# Altium schematic symbol library RCL.SchLib: 4 symbols
Pins are listed as number, name and electrical type; pins without a type are passive.

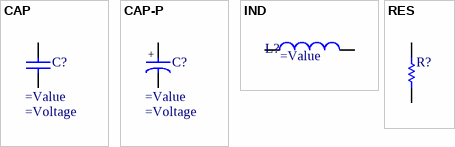
[diagram p0: symbols CAP to RES]

## CAP
designator C?  (value not drawn)
=Description; Value: =Value; Voltage: =Voltage
pins: 1, 2

## CAP-P
designator C?  (value not drawn)
=Description; Value: =Value; Voltage: =Voltage
pins: 1, 2
text: +

## IND
designator L?
=description; Value: =Value
pins: 1, 2

## RES
designator R?
=Description
pins: 1, 2